# Altium footprint library SnapEDApcb.PcbLib: 1 footprints
Each footprint in its own frame and in the unit in brackets; x right, y up, seen from the top. Pads: shape width x height; smd on the part's side, far side on the other; paste and mask are expansions set on the pad; w line width, h text height; cw(c..) or ccw(c..) is an arc to the next point about the centre after c.
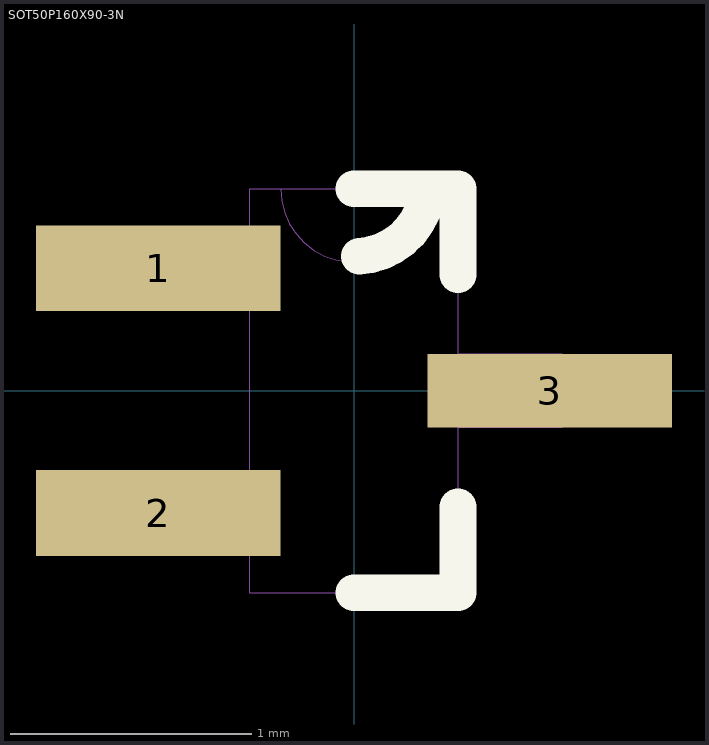
[diagram p0: the footprint, top view; thin cyan lines are the x and y axes]

## SOT50P160X90-3N [mil]
pads (3):
  rect 40x14 smd: 1(-32,20) 2(-32,-20)
  rect 40x12 smd: 3(32,0)
Top Overlay:
  lines w6: 0,-33 17,-33 17,-19 ; 0,33 12,33 17,33 17,19 ; 0.9,21.99 ccw(c0.28,33.72) 11.99,32.9
Mechanical 13:
  lines w0: -17,-26 -17,-33 17,-33 17,-6 ; -17,-26 -17,-14 ; -17,-26 -34,-26 -34,-14 -17,-14 ; -17,-14 -17,14 ; -17,14 -17,26 ; -17,14 -34,14 -34,26 -17,26 ; -17,26 -17,33 -12,33 ; -12,33 ccw(c0,33) 12,33 ; -12,33 12,33 ; 12,33 17,33 17,6 ; 17,-6 17,6 ; 17,-6 34,-6 34,6 17,6